# EAGLE library part DA15_CONNECTOR_NO_MOUNT_HOLES (library main_library)
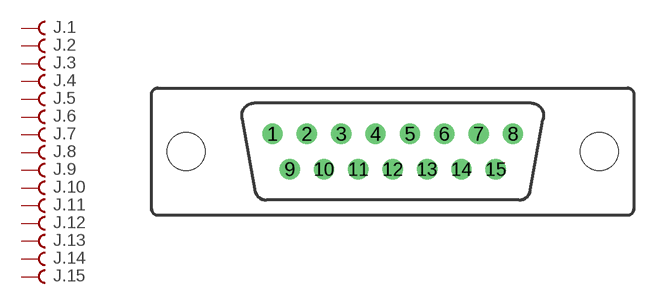
[diagram p6: symbol with the pads of DA15-MALE_NO_MOUNT_HOLES; footprint DA15-MALE_NO_MOUNT_HOLES]

Designator prefix J; gates .1=F .2=F .3=F .4=F .5=F .6=F .7=F .8=F .9=F .10=F .11=F .12=F .13=F .14=F .15=F

## DA15_CONNECTOR_NO_MOUNT_HOLES  [DA15-MALE_NO_MOUNT_HOLES]
1  .1:F  pas
2  .2:F  pas
3  .3:F  pas
4  .4:F  pas
5  .5:F  pas
6  .6:F  pas
7  .7:F  pas
8  .8:F  pas
9  .9:F  pas
10  .10:F  pas
11  .11:F  pas
12  .12:F  pas
13  .13:F  pas
14  .14:F  pas
15  .15:F  pas

## Footprint DA15-MALE_NO_MOUNT_HOLES (pad centres in mm)
drill 1.092: 1 -9.69,1.422; 2 -6.921,1.422; 3 -4.153,1.422; 4 -1.384,1.422; 5 1.384,1.422; 6 4.153,1.422; 7 6.921,1.422; 8 9.69,1.422; 9 -8.306,-1.422; 10 -5.537,-1.422; 11 -2.769,-1.422; 12 0,-1.422; 13 2.769,-1.422; 14 5.537,-1.422; 15 8.306,-1.422
hole 3.048 at -16.662,0
hole 3.048 at 16.662,0